# Altium footprint library PcbLib1.PcbLib: 37 footprints (part 3 of 3)
Each footprint in its own frame and in the unit in brackets; x right, y up, seen from the top. Pads: shape width x height; smd on the part's side, far side on the other; paste and mask are expansions set on the pad; w line width, h text height; cw(c..) or ccw(c..) is an arc to the next point about the centre after c.
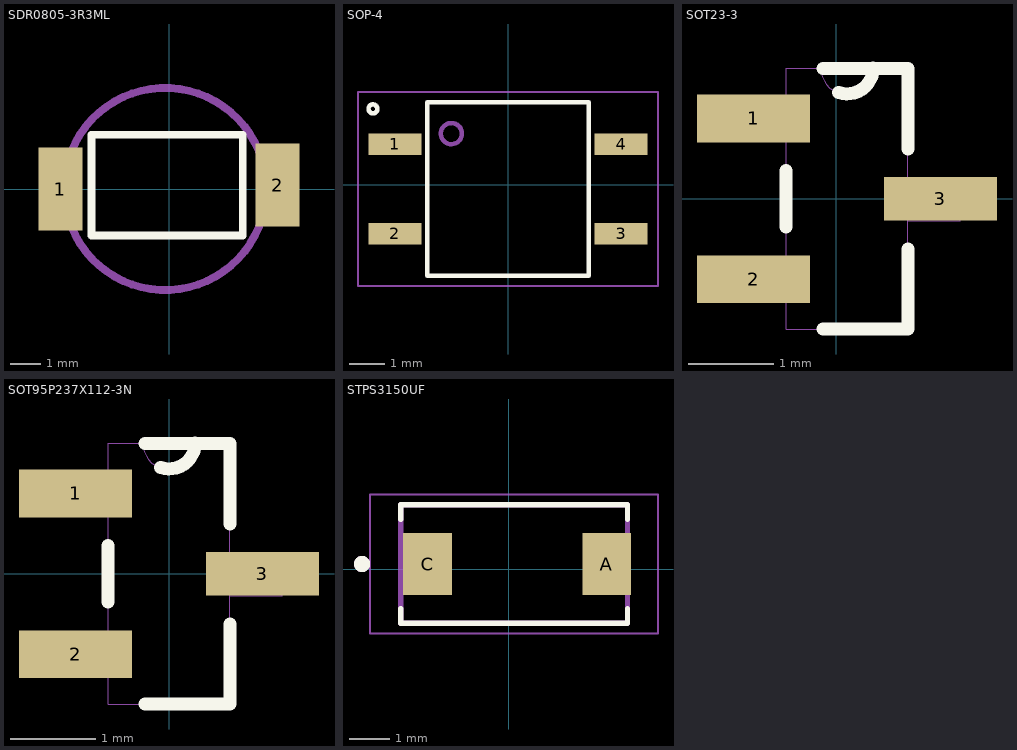
[diagram p2: the footprints below, top view; thin cyan lines are the x and y axes]

## SDR0805-3R3ML [mm]
pads (2):
  rect 1.45x2.72 smd: 1(-3.556,0) 2(3.556,0.127)
Top Overlay:
  lines w0.254: -2.54,-1.524 -2.54,1.778 2.413,1.778 2.413,-1.524 -2.54,-1.524
Mechanical 15:
  circle w0.254: c-0.127,0 r3.312

## SOP-4 [mm]
pads (4):
  rect 1.5x0.6 smd: 1(-3.205,1.143) 2(-3.205,-1.397) 3(3.205,-1.397) 4(3.205,1.143)
Top Overlay:
  circle w0.127: c-3.826,2.143 r0.127
  lines w0.127: -2.285,-2.587 2.285,-2.587 2.285,2.333 -2.285,2.333 -2.285,-2.587
Mechanical 13:
  circle w0.127: c-1.605,1.443 r0.3
Mechanical 15:
  lines w0.05: -4.25,-2.877 4.25,-2.877 4.25,2.623 -4.25,2.623 -4.25,-2.877

## SOT23-3 [mil]
pads (3):
  rect 52x22 smd: 1(-38,37) 2(-38,-37)
  rect 52x20 smd: 3(48,0)
Top Overlay:
  lines w6: -23,-13 -23,13 ; -6,-60 33,-60 33,-23 ; -6,60 17,60 33,60 33,23 ; 1.1,48.96 ccw(c5.15,60.1) 17,60.1
Mechanical 13:
  lines w0: -23,-47 -47,-47 -47,-28 -23,-28 ; -23,-47 -23,-28 ; -23,-47 -23,-60 33,-60 33,-10 ; -23,-28 -23,28 ; -23,28 -47,28 -47,47 -23,47 ; -23,28 -23,47 ; -23,47 -23,60 -7,60 ; -7,60 ccw(c5,60) 17,60 ; -7,60 17,60 ; 17,60 33,60 33,10 ; 33,-10 57,-10 57,10 33,10 ; 33,-10 33,10

## SOT95P237X112-3N [mil]
pads (3):
  rect 52x22 smd: 1(-43,37) 2(-43,-37)
  rect 52x20 smd: 3(43,0)
Top Overlay:
  lines w6: -28,-13 -28,13 ; -11,-60 28,-60 28,-23 ; -11,60 12,60 28,60 28,23 ; -3.9,48.96 ccw(c0.15,60.1) 12,60.1
Mechanical 13:
  lines w0: -28,-47 -52,-47 -52,-28 -28,-28 ; -28,-47 -28,-28 ; -28,-47 -28,-60 28,-60 28,-10 ; -28,-28 -28,28 ; -28,28 -52,28 -52,47 -28,47 ; -28,28 -28,47 ; -28,47 -28,60 -12,60 ; -12,60 ccw(c0,60) 12,60 ; -12,60 12,60 ; 12,60 28,60 28,10 ; 28,-10 52,-10 52,10 28,10 ; 28,-10 28,10

## STPS3150UF [mm]
pads (2):
  rect 1.2x1.52 smd: A(2.413,0.127) C(-2.008,0.127)
Top Overlay:
  circle w0.2: c-3.623,0.127 r0.1
  lines w0.127: -2.668,-0.968 -2.668,-1.333 2.922,-1.333 2.922,-0.968 ; -2.668,1.222 -2.668,1.587 2.922,1.587 2.922,1.222
Mechanical 13:
  circle w0.2: c-3.623,0.127 r0.1
  lines w0.127: -2.668,-1.333 -2.668,1.587 2.922,1.587 2.922,-1.333 -2.668,-1.333
Mechanical 15:
  lines w0.05: -3.423,-1.583 3.677,-1.583 3.677,1.837 -3.423,1.837 -3.423,-1.583